# EAGLE library part CMT2210L (library CMOSTek)
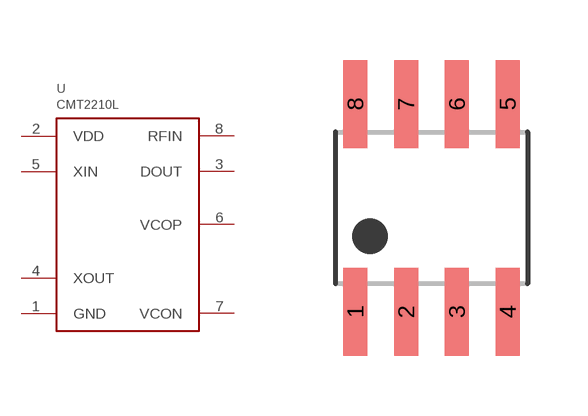
[diagram p0: symbol with the pads of SOIC8; footprint SOIC8]

Designator prefix U

## CMT2210L  [SOIC8]
1  GND
2  VDD
3  DOUT
4  XOUT
5  XIN
6  VCOP
7  VCON
8  RFIN

## Footprint SOIC8 (pad centres in mm)
smd 0.6 x 2.2: 1 -1.905,-2.6; 2 -0.635,-2.6; 3 0.635,-2.6; 4 1.905,-2.6; 5 1.905,2.6; 6 0.635,2.6; 7 -0.635,2.6; 8 -1.905,2.6